# Altium footprint library UmbilicalConnectors.PcbLib: 38 footprints (part 3 of 3)
Each footprint in its own frame and in the unit in brackets; x right, y up, seen from the top. Pads: shape width x height; smd on the part's side, far side on the other; paste and mask are expansions set on the pad; w line width, h text height; cw(c..) or ccw(c..) is an arc to the next point about the centre after c.
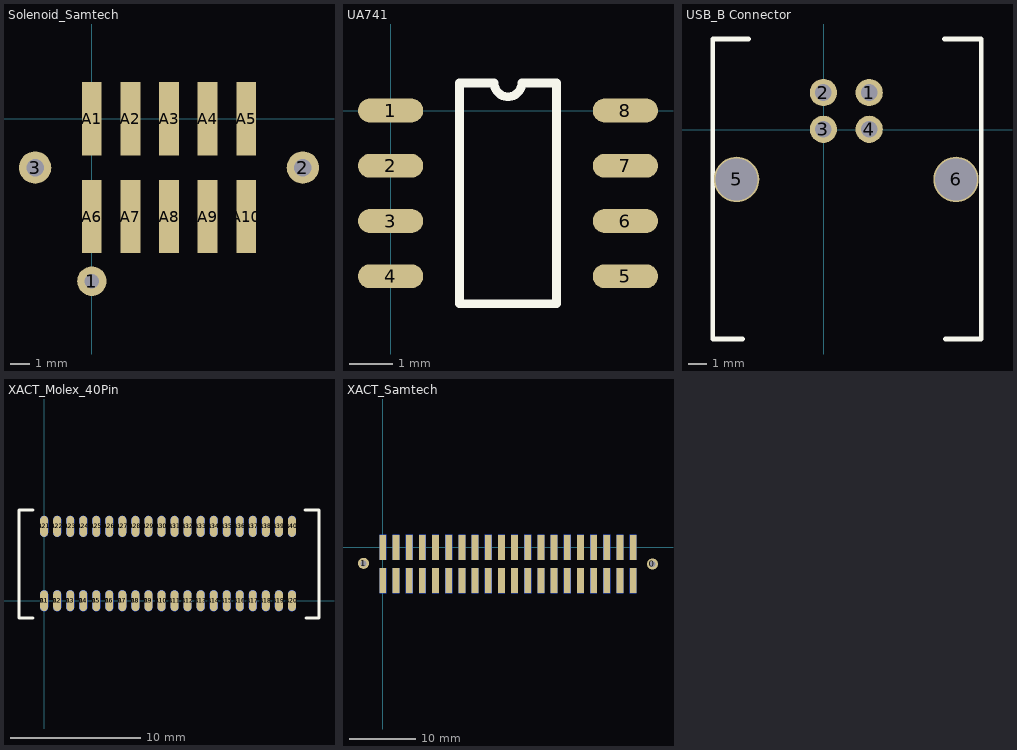
[diagram p2: the footprints below, top view; thin cyan lines are the x and y axes]

## Solenoid_Samtech [mm] "T2M-105-01-L-D-SM-WT"
pads (13):
  round 1.524 hole 0.762: 1(0,-8.425)
  round 1.676 hole 0.914 mask+0.076: 2(10.94,-2.535) 3(-2.94,-2.535)
  rect 1.02x3.8 all layers, no hole: A1(0,0) A2(2,0) A3(4,0) A4(6,0) A5(8,0) A6(0,-5.07) A7(2,-5.07) A8(4,-5.07) A9(6,-5.07) A10(8,-5.07)

## UA741 [mm]
pads (8):
  oval 1.5x0.55 smd: 1(0,0) 2(0,-1.27) 3(0,-2.54) 4(0,-3.81) 5(5.4,-3.81) 6(5.4,-2.54) 7(5.4,-1.27) 8(5.4,0)
Top Overlay:
  lines w0.2: 1.585,-4.445 1.585,0.635 2.382,0.635 ccw(c2.7,0.635) 3.017,0.635 3.815,0.635 3.815,-4.445 1.585,-4.445

## USB_B Connector [mm] "ED 2982-ND"
pads (6):
  round 1.5 hole 0.92 mask+0.076: 1(2.5,2.05) 2(-0.025,2.05) 3(-0.025,0.025) 4(2.5,0.025)
  round 2.5 hole 2.33 mask+0.076: 5(-4.808,-2.735) 6(7.282,-2.735)
Top Overlay:
  lines w0.254: -4.475,-11.525 -6.125,-11.525 -6.125,5 -4.15,5 ; 6.625,5 8.675,5 8.675,-11.525 6.7,-11.525
3D body "USB-B-S-X-X-TH-X.step": height 0, standoff -14.64, extent -6.125,-11.525 8.675,4.975

## ViatoFrame [mm]
via 0,0 diameter 5 hole 3.048

## XACT_Molex_40Pin [mm] "501571-4007"
pads (80):
  oval 0.6x1.6 smd: A1(0,0) A2(1,0) A3(2,0) A4(3,0) A5(4,0) A6(5,0) A7(6,0) A8(7,0) A9(8,0) A10(9,0) A11(10,0) A12(11,0) A13(12,0) A14(13,0) A15(14,0) A16(15,0) A17(16,0) A18(17,0) A19(18,0) A20(19,0) A21(0,5.7) A22(1,5.7) A23(2,5.7) A24(3,5.7) A25(4,5.7) A26(5,5.7) A27(6,5.7) A28(7,5.7) A29(8,5.7) A30(9,5.7) A31(10,5.7) A32(11,5.7) A33(12,5.7) A34(13,5.7) A35(14,5.7) A36(15,5.7) A37(16,5.7) A38(17,5.7) A39(18,5.7) A40(19,5.7)
  oval 0.6x1.6 smd far side: B1(0,0) B2(1,0) B3(2,0) B4(3,0) B5(4,0) B6(5,0) B7(6,0) B8(7,0) B9(8,0) B10(9,0) B11(10,0) B12(11,0) B13(12,0) B14(13,0) B15(14,0) B16(15,0) B17(16,0) B18(17,0) B19(18,0) B20(19,0) B21(0,5.7) B22(1,5.7) B23(2,5.7) B24(3,5.7) B25(4,5.7) B26(5,5.7) B27(6,5.7) B28(7,5.7) B29(8,5.7) B30(9,5.7) B31(10,5.7) B32(11,5.7) B33(12,5.7) B34(13,5.7) B35(14,5.7) B36(15,5.7) B37(16,5.7) B38(17,5.7) B39(18,5.7) B40(19,5.7)
Top Overlay:
  lines w0.254: -0.875,-1.32 -1.925,-1.32 -1.925,6.95 -0.875,6.95 ; 20.025,6.95 21.075,6.95 21.075,-1.32 20.075,-1.32
3D body "5015714007.stp": height 2.95, standoff -3.55, extent -1.85,-1.355 21.15,6.895

## XACT_Samtech [mm] "T2M-140-01-L-D-SM-WT"
pads (82):
  round 1.676 hole 0.914 mask+0.076: 0(40.94,-2.535) 1(-2.94,-2.435)
  rect 1.02x3.8 smd: A1(0,-5.07) A2(2,-5.07) A3(4,-5.07) A4(6,-5.07) A5(8,-5.07) A6(10,-5.07) A7(12,-5.07) A8(14,-5.07) A9(16,-5.07) A10(18,-5.07) A11(20,-5.07) A12(22,-5.07) A13(24,-5.07) A14(26,-5.07) A15(28,-5.07) A16(30,-5.07) A17(32,-5.07) A18(34,-5.07) A19(36,-5.07) A20(38,-5.07) A21(0,0) A22(2,0) A23(4,0) A24(6,0) A25(8,0) A26(10,0) A27(12,0) A28(14,0) A29(16,0) A30(18,0) A31(20,0) A32(22,0) A33(24,0) A34(26,0) A35(28,0) A36(30,0) A37(32,0) A38(34,0) A39(36,0) A40(38,0)
  rect 1.02x3.8 smd far side: B1(0,-5.07) B2(2,-5.07) B3(4,-5.07) B4(6,-5.07) B5(8,-5.07) B6(10,-5.07) B7(12,-5.07) B8(14,-5.07) B9(16,-5.07) B10(18,-5.07) B11(20,-5.07) B12(22,-5.07) B13(24,-5.07) B14(26,-5.07) B15(28,-5.07) B16(30,-5.07) B17(32,-5.07) B18(34,-5.07) B19(36,-5.07) B20(38,-5.07) B21(0,0) B22(2,0) B23(4,0) B24(6,0) B25(8,0) B26(10,0) B27(12,0) B28(14,0) B29(16,0) B30(18,0) B31(20,0) B32(22,0) B33(24,0) B34(26,0) B35(28,0) B36(30,0) B42(32,0) B43(34,0) B44(36,0) B45(38,0)